# EAGLE library part DS3231M (library stepOSP)
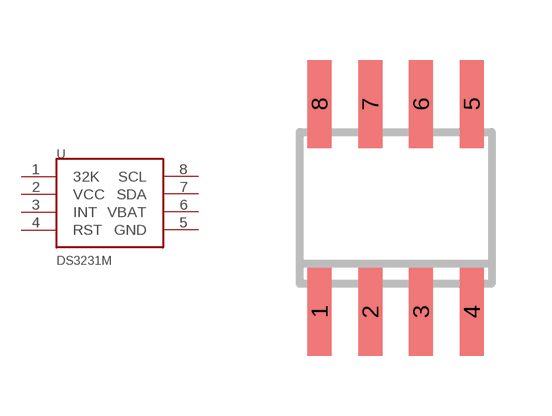
[diagram p32: symbol with the pads of SO-08; footprint SO-08]

Designator prefix -

## DS3231M  [SO-08]
1  32K
2  VCC
3  INT
4  RST
5  GND
6  VBAT
7  SDA
8  SCL

## Footprint SO-08 (pad centres in mm)
Small Outline Narrow Plastic Gull Wing 150-mil body, package type SN
smd 0.6 x 2.2: 1 -1.905,-2.6; 2 -0.635,-2.6; 3 0.635,-2.6; 4 1.905,-2.6; 5 1.905,2.6; 6 0.635,2.6; 7 -0.635,2.6; 8 -1.905,2.6